# Altium footprint library NFM18PC.PcbLib: 1 footprints
Each footprint in its own frame and in the unit in brackets; x right, y up, seen from the top. Pads: shape width x height; smd on the part's side, far side on the other; paste and mask are expansions set on the pad; w line width, h text height; cw(c..) or ccw(c..) is an arc to the next point about the centre after c.
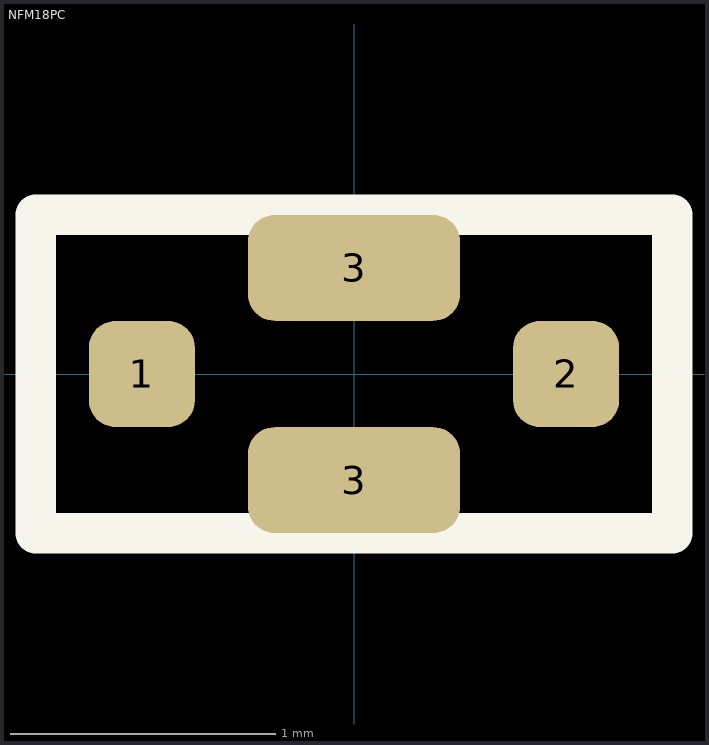
[diagram p0: the footprint, top view; thin cyan lines are the x and y axes]

## NFM18PC [mm]
pads (4):
  rrect50% 0.4x0.4 smd: 1(-0.8,0) 2(0.8,0)
  rrect50% 0.8x0.4 smd: 3(0,-0.4) 3(0,0.4)
Top Overlay:
  lines w0.152: -1.2,-0.6 1.2,-0.6 1.2,0.6 -1.2,0.6 -1.2,-0.6
3D body: height 0.8, standoff 0, extent -0.4,-0.4 0.4,-0.35
3D body: height 0.8, standoff 0, extent -0.8,-0.35 -0.75,0.35
3D body: height 0.8, standoff 0, extent -0.75,-0.35 0.8,0.35
3D body: height 0.8, standoff 0, extent 0.8,-0.35 0.85,0.35
3D body: height 0.8, standoff 0, extent -0.4,0.35 0.4,0.4